# Altium footprint library TerminalBlock_Phoenix.PcbLib: 114 footprints (part 3 of 8)
Each footprint in its own frame and in the unit in brackets; x right, y up, seen from the top. Pads: shape width x height; smd on the part's side, far side on the other; paste and mask are expansions set on the pad; w line width, h text height; cw(c..) or ccw(c..) is an arc to the next point about the centre after c.
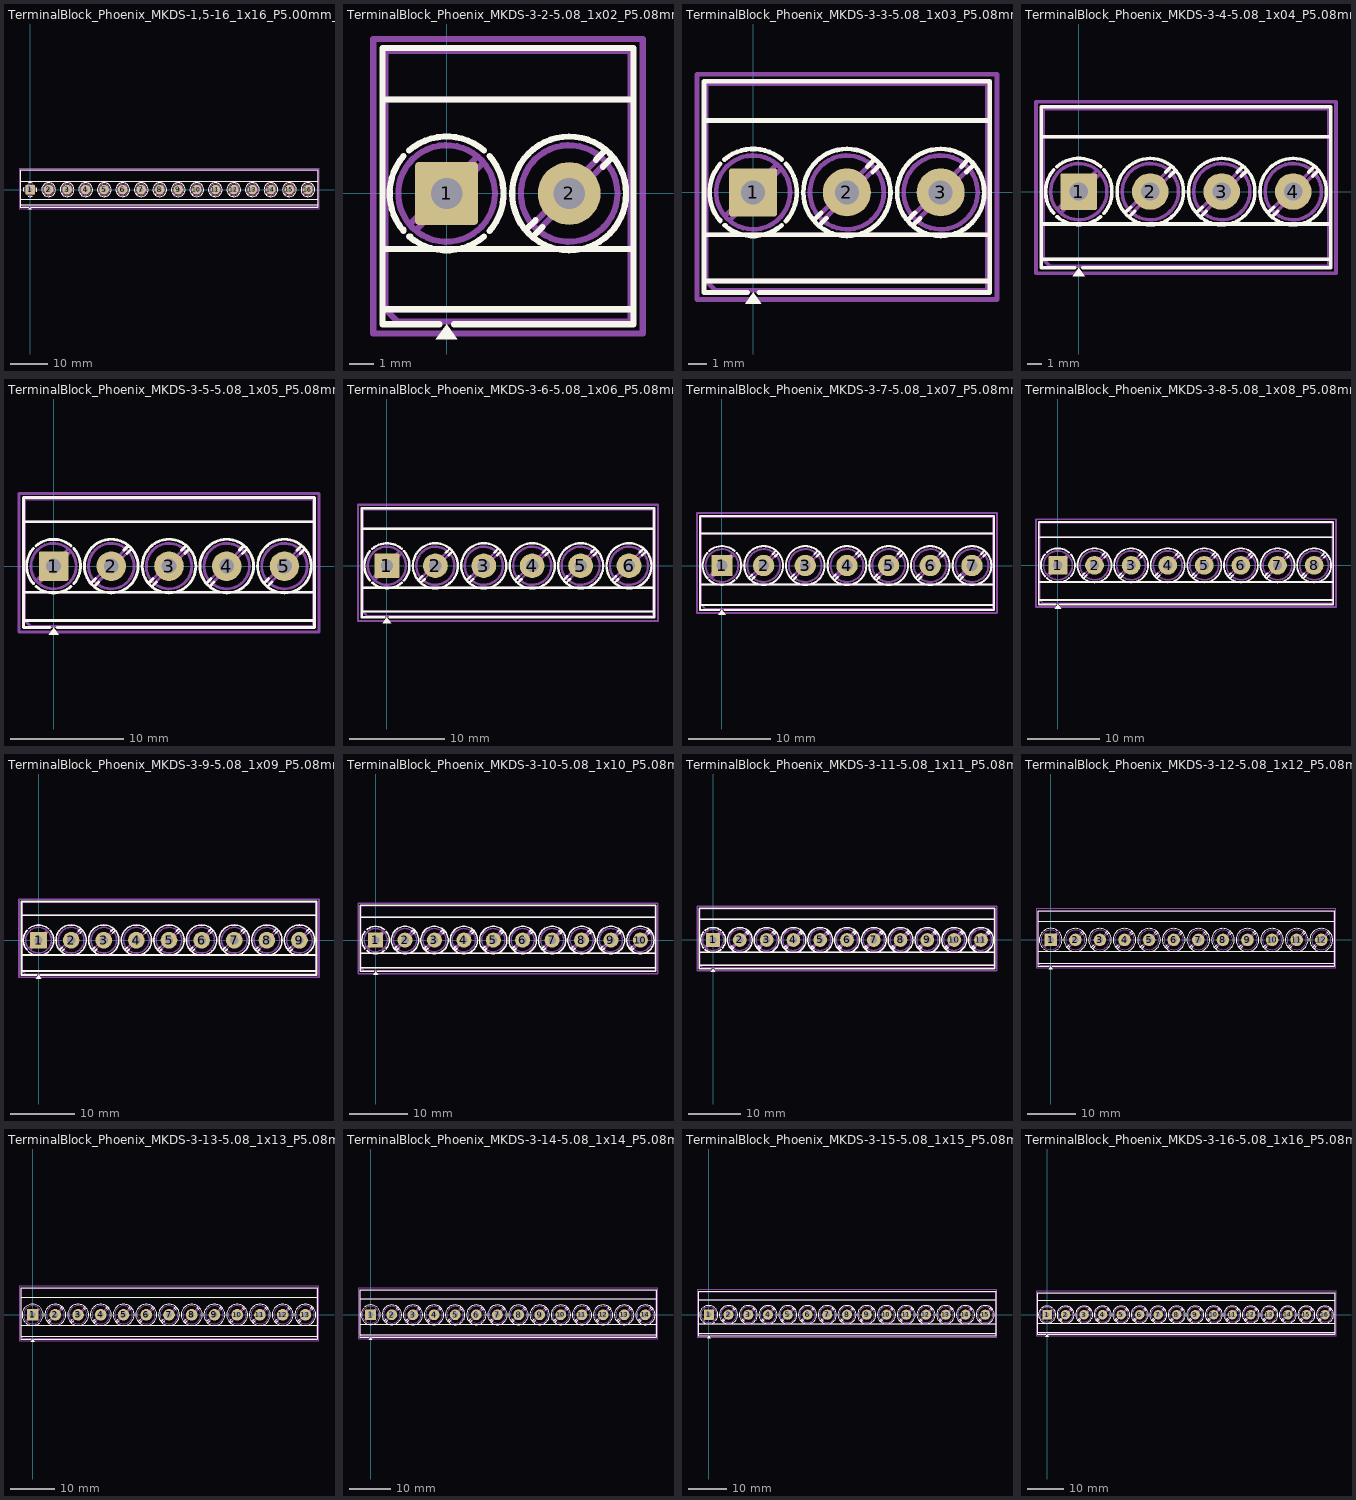
[diagram p2: the footprints below, top view; thin cyan lines are the x and y axes]

## TerminalBlock_Phoenix_MKDS-1,5-16_1x16_P5.00mm_Horizontal [mm]
pads (16):
  rrect10% 2.6x2.6 hole 1.3: 1(0,0)
  round 2.6 hole 1.3: 2(5,0) 3(10,0) 4(15,0) 5(20,0) 6(25,0) 7(30,0) 8(35,0) 9(40,0) 10(45,0) 11(50,0) 12(55,0) 13(60,0) 14(65,0) 15(70,0) 16(75,0)
F.SilkS:
  circle w0.254: c5,0 r1.86
  circle w0.254: c10,0 r1.86
  circle w0.254: c15,0 r1.86
  circle w0.254: c20,0 r1.86
  circle w0.254: c25,0 r1.86
  circle w0.254: c30,0 r1.86
  circle w0.254: c35,0 r1.86
  circle w0.254: c40,0 r1.86
  circle w0.254: c45,0 r1.86
  circle w0.254: c50,0 r1.86
  circle w0.254: c55,0 r1.86
  circle w0.254: c60,0 r1.86
  circle w0.254: c65,0 r1.86
  circle w0.254: c70,0 r1.86
  circle w0.254: c75,0 r1.86
  region: 0.44,-5.33 -0.44,-5.33 0,-4.72
  lines w0.254: -2.62,-4.1 77.62,-4.1 ; -2.62,-2.6 77.62,-2.6 ; -2.62,2.3 77.62,2.3 ; -1.78,-0.54 cw(c0,0) -1.78,0.539 ; -0.539,-1.78 ccw(c0,0) 0.54,-1.78 ; -0.54,1.78 cw(c0,0) 0.539,1.78 ; -0.3,-4.72 -2.62,-4.72 -2.62,5.32 77.62,5.32 77.62,-4.72 0.3,-4.72 ; 1.78,-0.539 ccw(c0,0) 1.78,0.54 ; 3.589,-1.183 3.633,-1.14 ; 3.816,-1.41 3.86,-1.367 ; 6.14,1.367 6.184,1.411 ; 6.367,1.14 6.411,1.184 ; 8.589,-1.183 8.633,-1.14 ; 8.816,-1.41 8.86,-1.367 ; 11.14,1.367 11.184,1.411 ; 11.367,1.14 11.411,1.184 ; 13.589,-1.183 13.633,-1.14 ; 13.816,-1.41 13.86,-1.367 ; 16.14,1.367 16.184,1.411 ; 16.367,1.14 16.411,1.184 ; 18.589,-1.183 18.633,-1.14 ; 18.816,-1.41 18.86,-1.367 ; 21.14,1.367 21.184,1.411 ; 21.367,1.14 21.411,1.184 ; 23.589,-1.183 23.633,-1.14 ; 23.816,-1.41 23.86,-1.367 ; 26.14,1.367 26.184,1.411 ; 26.367,1.14 26.411,1.184 ; 28.589,-1.183 28.633,-1.14 ; 28.816,-1.41 28.86,-1.367 ; 31.14,1.367 31.184,1.411 ; 31.367,1.14 31.411,1.184 ; 33.589,-1.183 33.633,-1.14 ; 33.816,-1.41 33.86,-1.367 ; 36.14,1.367 36.184,1.411 ; 36.367,1.14 36.411,1.184 ; 38.589,-1.183 38.633,-1.14 ; 38.816,-1.41 38.86,-1.367 ; 41.14,1.367 41.184,1.411 ; 41.367,1.14 41.411,1.184 ; 43.589,-1.183 43.633,-1.14 ; 43.816,-1.41 43.86,-1.367 ; 46.14,1.367 46.184,1.411 ; 46.367,1.14 46.411,1.184 ; 48.589,-1.183 48.633,-1.14 ; 48.816,-1.41 48.86,-1.367 ; 51.14,1.367 51.184,1.411 ; 51.367,1.14 51.411,1.184 ; 53.589,-1.183 53.633,-1.14 ; 53.816,-1.41 53.86,-1.367 ; 56.14,1.367 56.184,1.411 ; 56.367,1.14 56.411,1.184 ; 58.589,-1.183 58.633,-1.14 ; 58.816,-1.41 58.86,-1.367 ; 61.14,1.367 61.184,1.411 ; 61.367,1.14 61.411,1.184 ; 63.589,-1.183 63.633,-1.14 ; 63.816,-1.41 63.86,-1.367 ; 66.14,1.367 66.184,1.411 ; 66.367,1.14 66.411,1.184 ; 68.589,-1.183 68.633,-1.14 ; 68.816,-1.41 68.86,-1.367 ; 71.14,1.367 71.184,1.411 ; 71.367,1.14 71.411,1.184 ; 73.589,-1.183 73.633,-1.14 ; 73.816,-1.41 73.86,-1.367 ; 76.14,1.367 76.184,1.411 ; 76.367,1.14 76.411,1.184
F.CrtYd:
  lines w0.254: -3,-5.1 -3,5.71 78,5.71 78,-5.1 -3,-5.1
F.Fab:
  circle w0.254: c0,0 r1.5
  circle w0.254: c5,0 r1.5
  circle w0.254: c10,0 r1.5
  circle w0.254: c15,0 r1.5
  circle w0.254: c20,0 r1.5
  circle w0.254: c25,0 r1.5
  circle w0.254: c30,0 r1.5
  circle w0.254: c35,0 r1.5
  circle w0.254: c40,0 r1.5
  circle w0.254: c45,0 r1.5
  circle w0.254: c50,0 r1.5
  circle w0.254: c55,0 r1.5
  circle w0.254: c60,0 r1.5
  circle w0.254: c65,0 r1.5
  circle w0.254: c70,0 r1.5
  circle w0.254: c75,0 r1.5
  lines w0.254: -2.5,-2.6 77.5,-2.6 ; -2.5,2.3 77.5,2.3 ; -1.138,-0.954 0.955,1.138 ; -0.955,-1.137 1.138,0.954 ; 3.862,-0.954 5.955,1.138 ; 4.045,-1.137 6.138,0.954 ; 8.862,-0.954 10.955,1.138 ; 9.045,-1.137 11.138,0.954 ; 13.862,-0.954 15.955,1.138 ; 14.045,-1.137 16.138,0.954 ; 18.862,-0.954 20.955,1.138 ; 19.045,-1.137 21.138,0.954 ; 23.862,-0.954 25.955,1.138 ; 24.045,-1.137 26.138,0.954 ; 28.862,-0.954 30.955,1.138 ; 29.045,-1.137 31.138,0.954 ; 33.862,-0.954 35.955,1.138 ; 34.045,-1.137 36.138,0.954 ; 38.862,-0.954 40.955,1.138 ; 39.045,-1.137 41.138,0.954 ; 43.862,-0.954 45.955,1.138 ; 44.045,-1.137 46.138,0.954 ; 48.862,-0.954 50.955,1.138 ; 49.045,-1.137 51.138,0.954 ; 53.862,-0.954 55.955,1.138 ; 54.045,-1.137 56.138,0.954 ; 58.862,-0.954 60.955,1.138 ; 59.045,-1.137 61.138,0.954 ; 63.862,-0.954 65.955,1.138 ; 64.045,-1.137 66.138,0.954 ; 68.862,-0.954 70.955,1.138 ; 69.045,-1.137 71.138,0.954 ; 73.862,-0.954 75.955,1.138 ; 74.045,-1.137 76.138,0.954 ; 77.5,-4.1 -2.5,-4.1 ; -2.5,-4.1 -2.5,5.2 77.5,5.2 77.5,-4.6 -2,-4.6 -2.5,-4.1
  text "'.Designator'" at 36.061,-3.598 h1

## TerminalBlock_Phoenix_MKDS-3-2-5.08_1x02_P5.08mm_Horizontal [mm]
pads (2):
  rrect10% 2.6x2.6 hole 1.3: 1(0,0)
  round 2.6 hole 1.3: 2(5.08,0)
F.SilkS:
  circle w0.254: c5.08,0 r2.36
  region: 0.44,-6.03 -0.44,-6.03 0,-5.42
  lines w0.254: -2.66,-4.8 7.74,-4.8 ; -2.66,-2.3 7.74,-2.3 ; -2.66,3.9 7.74,3.9 ; -1.79,-1.502 -1.78,-1.491 ; -1.78,-1.55 cw(c0,0) -1.78,1.55 ; -1.55,-1.78 ccw(c0,0) 1.55,-1.78 ; -1.55,1.78 cw(c0,0) 1.55,1.78 ; -1.502,-1.79 -1.493,-1.78 ; -0.3,-5.42 -2.66,-5.42 -2.66,6.02 7.74,6.02 7.74,-5.42 0.3,-5.42 ; 1.78,-1.55 ccw(c0,0) 1.78,1.55 ; 3.29,-1.502 3.685,-1.106 ; 3.578,-1.79 3.973,-1.394 ; 6.186,1.394 6.582,1.79 ; 6.474,1.106 6.87,1.502
F.CrtYd:
  lines w0.254: -3.04,-5.8 -3.04,6.4 8.13,6.4 8.13,-5.8 -3.04,-5.8
F.Fab:
  circle w0.254: c0,0 r2
  circle w0.254: c5.08,0 r2
  lines w0.254: -2.54,-2.3 7.62,-2.3 ; -2.54,3.9 7.62,3.9 ; -1.517,-1.272 1.273,1.517 ; -1.273,-1.517 1.517,1.273 ; 3.563,-1.272 6.353,1.517 ; 3.807,-1.517 6.597,1.273 ; 7.62,-4.8 -2.54,-4.8 ; -2.54,-4.8 -2.54,5.9 7.62,5.9 7.62,-5.3 -2.04,-5.3 -2.54,-4.8
  text "'.Designator'" at 1.101,-3.498 h1

## TerminalBlock_Phoenix_MKDS-3-3-5.08_1x03_P5.08mm_Horizontal [mm]
pads (3):
  rrect10% 2.6x2.6 hole 1.3: 1(0,0)
  round 2.6 hole 1.3: 2(5.08,0) 3(10.16,0)
F.SilkS:
  circle w0.254: c5.08,0 r2.36
  circle w0.254: c10.16,0 r2.36
  region: 0.44,-6.03 -0.44,-6.03 0,-5.42
  lines w0.254: -2.66,-4.8 12.82,-4.8 ; -2.66,-2.3 12.82,-2.3 ; -2.66,3.9 12.82,3.9 ; -1.79,-1.502 -1.78,-1.491 ; -1.78,-1.55 cw(c0,0) -1.78,1.55 ; -1.55,-1.78 ccw(c0,0) 1.55,-1.78 ; -1.55,1.78 cw(c0,0) 1.55,1.78 ; -1.502,-1.79 -1.493,-1.78 ; -0.3,-5.42 -2.66,-5.42 -2.66,6.02 12.82,6.02 12.82,-5.42 0.3,-5.42 ; 1.78,-1.55 ccw(c0,0) 1.78,1.55 ; 3.29,-1.502 3.685,-1.106 ; 3.578,-1.79 3.973,-1.394 ; 6.186,1.394 6.582,1.79 ; 6.474,1.106 6.87,1.502 ; 8.37,-1.502 8.765,-1.106 ; 8.658,-1.79 9.053,-1.394 ; 11.266,1.394 11.662,1.79 ; 11.554,1.106 11.95,1.502
F.CrtYd:
  lines w0.254: -3.04,-5.8 -3.04,6.4 13.21,6.4 13.21,-5.8 -3.04,-5.8
F.Fab:
  circle w0.254: c0,0 r2
  circle w0.254: c5.08,0 r2
  circle w0.254: c10.16,0 r2
  lines w0.254: -2.54,-2.3 12.7,-2.3 ; -2.54,3.9 12.7,3.9 ; -1.517,-1.272 1.273,1.517 ; -1.273,-1.517 1.517,1.273 ; 3.563,-1.272 6.353,1.517 ; 3.807,-1.517 6.597,1.273 ; 8.643,-1.272 11.433,1.517 ; 8.887,-1.517 11.677,1.273 ; 12.7,-4.8 -2.54,-4.8 ; -2.54,-4.8 -2.54,5.9 12.7,5.9 12.7,-5.3 -2.04,-5.3 -2.54,-4.8
  text "'.Designator'" at 3.641,-3.498 h1

## TerminalBlock_Phoenix_MKDS-3-4-5.08_1x04_P5.08mm_Horizontal [mm]
pads (4):
  rrect10% 2.6x2.6 hole 1.3: 1(0,0)
  round 2.6 hole 1.3: 2(5.08,0) 3(10.16,0) 4(15.24,0)
F.SilkS:
  circle w0.254: c5.08,0 r2.36
  circle w0.254: c10.16,0 r2.36
  circle w0.254: c15.24,0 r2.36
  region: 0.44,-6.03 -0.44,-6.03 0,-5.42
  lines w0.254: -2.66,-4.8 17.9,-4.8 ; -2.66,-2.3 17.9,-2.3 ; -2.66,3.9 17.9,3.9 ; -1.79,-1.502 -1.78,-1.491 ; -1.78,-1.55 cw(c0,0) -1.78,1.55 ; -1.55,-1.78 ccw(c0,0) 1.55,-1.78 ; -1.55,1.78 cw(c0,0) 1.55,1.78 ; -1.502,-1.79 -1.493,-1.78 ; -0.3,-5.42 -2.66,-5.42 -2.66,6.02 17.9,6.02 17.9,-5.42 0.3,-5.42 ; 1.78,-1.55 ccw(c0,0) 1.78,1.55 ; 3.29,-1.502 3.685,-1.106 ; 3.578,-1.79 3.973,-1.394 ; 6.186,1.394 6.582,1.79 ; 6.474,1.106 6.87,1.502 ; 8.37,-1.502 8.765,-1.106 ; 8.658,-1.79 9.053,-1.394 ; 11.266,1.394 11.662,1.79 ; 11.554,1.106 11.95,1.502 ; 13.45,-1.502 13.845,-1.106 ; 13.738,-1.79 14.133,-1.394 ; 16.346,1.394 16.742,1.79 ; 16.634,1.106 17.03,1.502
F.CrtYd:
  lines w0.254: -3.04,-5.8 -3.04,6.4 18.28,6.4 18.28,-5.8 -3.04,-5.8
F.Fab:
  circle w0.254: c0,0 r2
  circle w0.254: c5.08,0 r2
  circle w0.254: c10.16,0 r2
  circle w0.254: c15.24,0 r2
  lines w0.254: -2.54,-2.3 17.78,-2.3 ; -2.54,3.9 17.78,3.9 ; -1.517,-1.272 1.273,1.517 ; -1.273,-1.517 1.517,1.273 ; 3.563,-1.272 6.353,1.517 ; 3.807,-1.517 6.597,1.273 ; 8.643,-1.272 11.433,1.517 ; 8.887,-1.517 11.677,1.273 ; 13.723,-1.272 16.513,1.517 ; 13.967,-1.517 16.757,1.273 ; 17.78,-4.8 -2.54,-4.8 ; -2.54,-4.8 -2.54,5.9 17.78,5.9 17.78,-5.3 -2.04,-5.3 -2.54,-4.8
  text "'.Designator'" at 6.181,-3.498 h1

## TerminalBlock_Phoenix_MKDS-3-5-5.08_1x05_P5.08mm_Horizontal [mm]
pads (5):
  rrect10% 2.6x2.6 hole 1.3: 1(0,0)
  round 2.6 hole 1.3: 2(5.08,0) 3(10.16,0) 4(15.24,0) 5(20.32,0)
F.SilkS:
  circle w0.254: c5.08,0 r2.36
  circle w0.254: c10.16,0 r2.36
  circle w0.254: c15.24,0 r2.36
  circle w0.254: c20.32,0 r2.36
  region: 0.44,-6.03 -0.44,-6.03 0,-5.42
  lines w0.254: -2.66,-4.8 22.98,-4.8 ; -2.66,-2.3 22.98,-2.3 ; -2.66,3.9 22.98,3.9 ; -1.79,-1.502 -1.78,-1.491 ; -1.78,-1.55 cw(c0,0) -1.78,1.55 ; -1.55,-1.78 ccw(c0,0) 1.55,-1.78 ; -1.55,1.78 cw(c0,0) 1.55,1.78 ; -1.502,-1.79 -1.493,-1.78 ; -0.3,-5.42 -2.66,-5.42 -2.66,6.02 22.98,6.02 22.98,-5.42 0.3,-5.42 ; 1.78,-1.55 ccw(c0,0) 1.78,1.55 ; 3.29,-1.502 3.685,-1.106 ; 3.578,-1.79 3.973,-1.394 ; 6.186,1.394 6.582,1.79 ; 6.474,1.106 6.87,1.502 ; 8.37,-1.502 8.765,-1.106 ; 8.658,-1.79 9.053,-1.394 ; 11.266,1.394 11.662,1.79 ; 11.554,1.106 11.95,1.502 ; 13.45,-1.502 13.845,-1.106 ; 13.738,-1.79 14.133,-1.394 ; 16.346,1.394 16.742,1.79 ; 16.634,1.106 17.03,1.502 ; 18.53,-1.502 18.925,-1.106 ; 18.818,-1.79 19.213,-1.394 ; 21.426,1.394 21.822,1.79 ; 21.714,1.106 22.11,1.502
F.CrtYd:
  lines w0.254: -3.04,-5.8 -3.04,6.4 23.36,6.4 23.36,-5.8 -3.04,-5.8
F.Fab:
  circle w0.254: c0,0 r2
  circle w0.254: c5.08,0 r2
  circle w0.254: c10.16,0 r2
  circle w0.254: c15.24,0 r2
  circle w0.254: c20.32,0 r2
  lines w0.254: -2.54,-2.3 22.86,-2.3 ; -2.54,3.9 22.86,3.9 ; -1.517,-1.272 1.273,1.517 ; -1.273,-1.517 1.517,1.273 ; 3.563,-1.272 6.353,1.517 ; 3.807,-1.517 6.597,1.273 ; 8.643,-1.272 11.433,1.517 ; 8.887,-1.517 11.677,1.273 ; 13.723,-1.272 16.513,1.517 ; 13.967,-1.517 16.757,1.273 ; 18.803,-1.272 21.593,1.517 ; 19.047,-1.517 21.837,1.273 ; 22.86,-4.8 -2.54,-4.8 ; -2.54,-4.8 -2.54,5.9 22.86,5.9 22.86,-5.3 -2.04,-5.3 -2.54,-4.8
  text "'.Designator'" at 8.721,-3.498 h1

## TerminalBlock_Phoenix_MKDS-3-6-5.08_1x06_P5.08mm_Horizontal [mm]
pads (6):
  rrect10% 2.6x2.6 hole 1.3: 1(0,0)
  round 2.6 hole 1.3: 2(5.08,0) 3(10.16,0) 4(15.24,0) 5(20.32,0) 6(25.4,0)
F.SilkS:
  circle w0.254: c5.08,0 r2.36
  circle w0.254: c10.16,0 r2.36
  circle w0.254: c15.24,0 r2.36
  circle w0.254: c20.32,0 r2.36
  circle w0.254: c25.4,0 r2.36
  region: 0.44,-6.03 -0.44,-6.03 0,-5.42
  lines w0.254: -2.66,-4.8 28.06,-4.8 ; -2.66,-2.3 28.06,-2.3 ; -2.66,3.9 28.06,3.9 ; -1.79,-1.502 -1.78,-1.491 ; -1.78,-1.55 cw(c0,0) -1.78,1.55 ; -1.55,-1.78 ccw(c0,0) 1.55,-1.78 ; -1.55,1.78 cw(c0,0) 1.55,1.78 ; -1.502,-1.79 -1.493,-1.78 ; -0.3,-5.42 -2.66,-5.42 -2.66,6.02 28.06,6.02 28.06,-5.42 0.3,-5.42 ; 1.78,-1.55 ccw(c0,0) 1.78,1.55 ; 3.29,-1.502 3.685,-1.106 ; 3.578,-1.79 3.973,-1.394 ; 6.186,1.394 6.582,1.79 ; 6.474,1.106 6.87,1.502 ; 8.37,-1.502 8.765,-1.106 ; 8.658,-1.79 9.053,-1.394 ; 11.266,1.394 11.662,1.79 ; 11.554,1.106 11.95,1.502 ; 13.45,-1.502 13.845,-1.106 ; 13.738,-1.79 14.133,-1.394 ; 16.346,1.394 16.742,1.79 ; 16.634,1.106 17.03,1.502 ; 18.53,-1.502 18.925,-1.106 ; 18.818,-1.79 19.213,-1.394 ; 21.426,1.394 21.822,1.79 ; 21.714,1.106 22.11,1.502 ; 23.61,-1.502 24.005,-1.106 ; 23.898,-1.79 24.293,-1.394 ; 26.506,1.394 26.902,1.79 ; 26.794,1.106 27.19,1.502
F.CrtYd:
  lines w0.254: -3.04,-5.8 -3.04,6.4 28.44,6.4 28.44,-5.8 -3.04,-5.8
F.Fab:
  circle w0.254: c0,0 r2
  circle w0.254: c5.08,0 r2
  circle w0.254: c10.16,0 r2
  circle w0.254: c15.24,0 r2
  circle w0.254: c20.32,0 r2
  circle w0.254: c25.4,0 r2
  lines w0.254: -2.54,-2.3 27.94,-2.3 ; -2.54,3.9 27.94,3.9 ; -1.517,-1.272 1.273,1.517 ; -1.273,-1.517 1.517,1.273 ; 3.563,-1.272 6.353,1.517 ; 3.807,-1.517 6.597,1.273 ; 8.643,-1.272 11.433,1.517 ; 8.887,-1.517 11.677,1.273 ; 13.723,-1.272 16.513,1.517 ; 13.967,-1.517 16.757,1.273 ; 18.803,-1.272 21.593,1.517 ; 19.047,-1.517 21.837,1.273 ; 23.883,-1.272 26.673,1.517 ; 24.127,-1.517 26.917,1.273 ; 27.94,-4.8 -2.54,-4.8 ; -2.54,-4.8 -2.54,5.9 27.94,5.9 27.94,-5.3 -2.04,-5.3 -2.54,-4.8
  text "'.Designator'" at 11.261,-3.498 h1

## TerminalBlock_Phoenix_MKDS-3-7-5.08_1x07_P5.08mm_Horizontal [mm]
pads (7):
  rrect10% 2.6x2.6 hole 1.3: 1(0,0)
  round 2.6 hole 1.3: 2(5.08,0) 3(10.16,0) 4(15.24,0) 5(20.32,0) 6(25.4,0) 7(30.48,0)
F.SilkS:
  circle w0.254: c5.08,0 r2.36
  circle w0.254: c10.16,0 r2.36
  circle w0.254: c15.24,0 r2.36
  circle w0.254: c20.32,0 r2.36
  circle w0.254: c25.4,0 r2.36
  circle w0.254: c30.48,0 r2.36
  region: 0.44,-6.03 -0.44,-6.03 0,-5.42
  lines w0.254: -2.66,-4.8 33.14,-4.8 ; -2.66,-2.3 33.14,-2.3 ; -2.66,3.9 33.14,3.9 ; -1.79,-1.502 -1.78,-1.491 ; -1.78,-1.55 cw(c0,0) -1.78,1.55 ; -1.55,-1.78 ccw(c0,0) 1.55,-1.78 ; -1.55,1.78 cw(c0,0) 1.55,1.78 ; -1.502,-1.79 -1.493,-1.78 ; -0.3,-5.42 -2.66,-5.42 -2.66,6.02 33.14,6.02 33.14,-5.42 0.3,-5.42 ; 1.78,-1.55 ccw(c0,0) 1.78,1.55 ; 3.29,-1.502 3.685,-1.106 ; 3.578,-1.79 3.973,-1.394 ; 6.186,1.394 6.582,1.79 ; 6.474,1.106 6.87,1.502 ; 8.37,-1.502 8.765,-1.106 ; 8.658,-1.79 9.053,-1.394 ; 11.266,1.394 11.662,1.79 ; 11.554,1.106 11.95,1.502 ; 13.45,-1.502 13.845,-1.106 ; 13.738,-1.79 14.133,-1.394 ; 16.346,1.394 16.742,1.79 ; 16.634,1.106 17.03,1.502 ; 18.53,-1.502 18.925,-1.106 ; 18.818,-1.79 19.213,-1.394 ; 21.426,1.394 21.822,1.79 ; 21.714,1.106 22.11,1.502 ; 23.61,-1.502 24.005,-1.106 ; 23.898,-1.79 24.293,-1.394 ; 26.506,1.394 26.902,1.79 ; 26.794,1.106 27.19,1.502 ; 28.69,-1.502 29.085,-1.106 ; 28.978,-1.79 29.373,-1.394 ; 31.586,1.394 31.982,1.79 ; 31.874,1.106 32.27,1.502
F.CrtYd:
  lines w0.254: -3.04,-5.8 -3.04,6.4 33.53,6.4 33.53,-5.8 -3.04,-5.8
F.Fab:
  circle w0.254: c0,0 r2
  circle w0.254: c5.08,0 r2
  circle w0.254: c10.16,0 r2
  circle w0.254: c15.24,0 r2
  circle w0.254: c20.32,0 r2
  circle w0.254: c25.4,0 r2
  circle w0.254: c30.48,0 r2
  lines w0.254: -2.54,-2.3 33.02,-2.3 ; -2.54,3.9 33.02,3.9 ; -1.517,-1.272 1.273,1.517 ; -1.273,-1.517 1.517,1.273 ; 3.563,-1.272 6.353,1.517 ; 3.807,-1.517 6.597,1.273 ; 8.643,-1.272 11.433,1.517 ; 8.887,-1.517 11.677,1.273 ; 13.723,-1.272 16.513,1.517 ; 13.967,-1.517 16.757,1.273 ; 18.803,-1.272 21.593,1.517 ; 19.047,-1.517 21.837,1.273 ; 23.883,-1.272 26.673,1.517 ; 24.127,-1.517 26.917,1.273 ; 28.963,-1.272 31.753,1.517 ; 29.207,-1.517 31.997,1.273 ; 33.02,-4.8 -2.54,-4.8 ; -2.54,-4.8 -2.54,5.9 33.02,5.9 33.02,-5.3 -2.04,-5.3 -2.54,-4.8
  text "'.Designator'" at 13.801,-3.498 h1

## TerminalBlock_Phoenix_MKDS-3-8-5.08_1x08_P5.08mm_Horizontal [mm]
pads (8):
  rrect10% 2.6x2.6 hole 1.3: 1(0,0)
  round 2.6 hole 1.3: 2(5.08,0) 3(10.16,0) 4(15.24,0) 5(20.32,0) 6(25.4,0) 7(30.48,0) 8(35.56,0)
F.SilkS:
  circle w0.254: c5.08,0 r2.36
  circle w0.254: c10.16,0 r2.36
  circle w0.254: c15.24,0 r2.36
  circle w0.254: c20.32,0 r2.36
  circle w0.254: c25.4,0 r2.36
  circle w0.254: c30.48,0 r2.36
  circle w0.254: c35.56,0 r2.36
  region: 0.44,-6.03 -0.44,-6.03 0,-5.42
  lines w0.254: -2.66,-4.8 38.22,-4.8 ; -2.66,-2.3 38.22,-2.3 ; -2.66,3.9 38.22,3.9 ; -1.79,-1.502 -1.78,-1.491 ; -1.78,-1.55 cw(c0,0) -1.78,1.55 ; -1.55,-1.78 ccw(c0,0) 1.55,-1.78 ; -1.55,1.78 cw(c0,0) 1.55,1.78 ; -1.502,-1.79 -1.493,-1.78 ; -0.3,-5.42 -2.66,-5.42 -2.66,6.02 38.22,6.02 38.22,-5.42 0.3,-5.42 ; 1.78,-1.55 ccw(c0,0) 1.78,1.55 ; 3.29,-1.502 3.685,-1.106 ; 3.578,-1.79 3.973,-1.394 ; 6.186,1.394 6.582,1.79 ; 6.474,1.106 6.87,1.502 ; 8.37,-1.502 8.765,-1.106 ; 8.658,-1.79 9.053,-1.394 ; 11.266,1.394 11.662,1.79 ; 11.554,1.106 11.95,1.502 ; 13.45,-1.502 13.845,-1.106 ; 13.738,-1.79 14.133,-1.394 ; 16.346,1.394 16.742,1.79 ; 16.634,1.106 17.03,1.502 ; 18.53,-1.502 18.925,-1.106 ; 18.818,-1.79 19.213,-1.394 ; 21.426,1.394 21.822,1.79 ; 21.714,1.106 22.11,1.502 ; 23.61,-1.502 24.005,-1.106 ; 23.898,-1.79 24.293,-1.394 ; 26.506,1.394 26.902,1.79 ; 26.794,1.106 27.19,1.502 ; 28.69,-1.502 29.085,-1.106 ; 28.978,-1.79 29.373,-1.394 ; 31.586,1.394 31.982,1.79 ; 31.874,1.106 32.27,1.502 ; 33.77,-1.502 34.165,-1.106 ; 34.058,-1.79 34.453,-1.394 ; 36.666,1.394 37.062,1.79 ; 36.954,1.106 37.35,1.502
F.CrtYd:
  lines w0.254: -3.04,-5.8 -3.04,6.4 38.6,6.4 38.6,-5.8 -3.04,-5.8
F.Fab:
  circle w0.254: c0,0 r2
  circle w0.254: c5.08,0 r2
  circle w0.254: c10.16,0 r2
  circle w0.254: c15.24,0 r2
  circle w0.254: c20.32,0 r2
  circle w0.254: c25.4,0 r2
  circle w0.254: c30.48,0 r2
  circle w0.254: c35.56,0 r2
  lines w0.254: -2.54,-2.3 38.1,-2.3 ; -2.54,3.9 38.1,3.9 ; -1.517,-1.272 1.273,1.517 ; -1.273,-1.517 1.517,1.273 ; 3.563,-1.272 6.353,1.517 ; 3.807,-1.517 6.597,1.273 ; 8.643,-1.272 11.433,1.517 ; 8.887,-1.517 11.677,1.273 ; 13.723,-1.272 16.513,1.517 ; 13.967,-1.517 16.757,1.273 ; 18.803,-1.272 21.593,1.517 ; 19.047,-1.517 21.837,1.273 ; 23.883,-1.272 26.673,1.517 ; 24.127,-1.517 26.917,1.273 ; 28.963,-1.272 31.753,1.517 ; 29.207,-1.517 31.997,1.273 ; 34.043,-1.272 36.833,1.517 ; 34.287,-1.517 37.077,1.273 ; 38.1,-4.8 -2.54,-4.8 ; -2.54,-4.8 -2.54,5.9 38.1,5.9 38.1,-5.3 -2.04,-5.3 -2.54,-4.8
  text "'.Designator'" at 16.341,-3.498 h1

## TerminalBlock_Phoenix_MKDS-3-9-5.08_1x09_P5.08mm_Horizontal [mm]
pads (9):
  rrect10% 2.6x2.6 hole 1.3: 1(0,0)
  round 2.6 hole 1.3: 2(5.08,0) 3(10.16,0) 4(15.24,0) 5(20.32,0) 6(25.4,0) 7(30.48,0) 8(35.56,0) 9(40.64,0)
F.SilkS:
  circle w0.254: c5.08,0 r2.36
  circle w0.254: c10.16,0 r2.36
  circle w0.254: c15.24,0 r2.36
  circle w0.254: c20.32,0 r2.36
  circle w0.254: c25.4,0 r2.36
  circle w0.254: c30.48,0 r2.36
  circle w0.254: c35.56,0 r2.36
  circle w0.254: c40.64,0 r2.36
  region: 0.44,-6.03 -0.44,-6.03 0,-5.42
  lines w0.254: -2.66,-4.8 43.3,-4.8 ; -2.66,-2.3 43.3,-2.3 ; -2.66,3.9 43.3,3.9 ; -1.79,-1.502 -1.78,-1.491 ; -1.78,-1.55 cw(c0,0) -1.78,1.55 ; -1.55,-1.78 ccw(c0,0) 1.55,-1.78 ; -1.55,1.78 cw(c0,0) 1.55,1.78 ; -1.502,-1.79 -1.493,-1.78 ; -0.3,-5.42 -2.66,-5.42 -2.66,6.02 43.3,6.02 43.3,-5.42 0.3,-5.42 ; 1.78,-1.55 ccw(c0,0) 1.78,1.55 ; 3.29,-1.502 3.685,-1.106 ; 3.578,-1.79 3.973,-1.394 ; 6.186,1.394 6.582,1.79 ; 6.474,1.106 6.87,1.502 ; 8.37,-1.502 8.765,-1.106 ; 8.658,-1.79 9.053,-1.394 ; 11.266,1.394 11.662,1.79 ; 11.554,1.106 11.95,1.502 ; 13.45,-1.502 13.845,-1.106 ; 13.738,-1.79 14.133,-1.394 ; 16.346,1.394 16.742,1.79 ; 16.634,1.106 17.03,1.502 ; 18.53,-1.502 18.925,-1.106 ; 18.818,-1.79 19.213,-1.394 ; 21.426,1.394 21.822,1.79 ; 21.714,1.106 22.11,1.502 ; 23.61,-1.502 24.005,-1.106 ; 23.898,-1.79 24.293,-1.394 ; 26.506,1.394 26.902,1.79 ; 26.794,1.106 27.19,1.502 ; 28.69,-1.502 29.085,-1.106 ; 28.978,-1.79 29.373,-1.394 ; 31.586,1.394 31.982,1.79 ; 31.874,1.106 32.27,1.502 ; 33.77,-1.502 34.165,-1.106 ; 34.058,-1.79 34.453,-1.394 ; 36.666,1.394 37.062,1.79 ; 36.954,1.106 37.35,1.502 ; 38.85,-1.502 39.245,-1.106 ; 39.138,-1.79 39.533,-1.394 ; 41.746,1.394 42.142,1.79 ; 42.034,1.106 42.43,1.502
F.CrtYd:
  lines w0.254: -3.04,-5.8 -3.04,6.4 43.68,6.4 43.68,-5.8 -3.04,-5.8
F.Fab:
  circle w0.254: c0,0 r2
  circle w0.254: c5.08,0 r2
  circle w0.254: c10.16,0 r2
  circle w0.254: c15.24,0 r2
  circle w0.254: c20.32,0 r2
  circle w0.254: c25.4,0 r2
  circle w0.254: c30.48,0 r2
  circle w0.254: c35.56,0 r2
  circle w0.254: c40.64,0 r2
  lines w0.254: -2.54,-2.3 43.18,-2.3 ; -2.54,3.9 43.18,3.9 ; -1.517,-1.272 1.273,1.517 ; -1.273,-1.517 1.517,1.273 ; 3.563,-1.272 6.353,1.517 ; 3.807,-1.517 6.597,1.273 ; 8.643,-1.272 11.433,1.517 ; 8.887,-1.517 11.677,1.273 ; 13.723,-1.272 16.513,1.517 ; 13.967,-1.517 16.757,1.273 ; 18.803,-1.272 21.593,1.517 ; 19.047,-1.517 21.837,1.273 ; 23.883,-1.272 26.673,1.517 ; 24.127,-1.517 26.917,1.273 ; 28.963,-1.272 31.753,1.517 ; 29.207,-1.517 31.997,1.273 ; 34.043,-1.272 36.833,1.517 ; 34.287,-1.517 37.077,1.273 ; 39.123,-1.272 41.913,1.517 ; 39.367,-1.517 42.157,1.273 ; 43.18,-4.8 -2.54,-4.8 ; -2.54,-4.8 -2.54,5.9 43.18,5.9 43.18,-5.3 -2.04,-5.3 -2.54,-4.8
  text "'.Designator'" at 18.881,-3.498 h1

## TerminalBlock_Phoenix_MKDS-3-10-5.08_1x10_P5.08mm_Horizontal [mm]
pads (10):
  rrect10% 2.6x2.6 hole 1.3: 1(0,0)
  round 2.6 hole 1.3: 2(5.08,0) 3(10.16,0) 4(15.24,0) 5(20.32,0) 6(25.4,0) 7(30.48,0) 8(35.56,0) 9(40.64,0) 10(45.72,0)
F.SilkS:
  circle w0.254: c5.08,0 r2.36
  circle w0.254: c10.16,0 r2.36
  circle w0.254: c15.24,0 r2.36
  circle w0.254: c20.32,0 r2.36
  circle w0.254: c25.4,0 r2.36
  circle w0.254: c30.48,0 r2.36
  circle w0.254: c35.56,0 r2.36
  circle w0.254: c40.64,0 r2.36
  circle w0.254: c45.72,0 r2.36
  region: 0.44,-6.03 -0.44,-6.03 0,-5.42
  lines w0.254: -2.66,-4.8 48.38,-4.8 ; -2.66,-2.3 48.38,-2.3 ; -2.66,3.9 48.38,3.9 ; -1.79,-1.502 -1.78,-1.491 ; -1.78,-1.55 cw(c0,0) -1.78,1.55 ; -1.55,-1.78 ccw(c0,0) 1.55,-1.78 ; -1.55,1.78 cw(c0,0) 1.55,1.78 ; -1.502,-1.79 -1.493,-1.78 ; -0.3,-5.42 -2.66,-5.42 -2.66,6.02 48.38,6.02 48.38,-5.42 0.3,-5.42 ; 1.78,-1.55 ccw(c0,0) 1.78,1.55 ; 3.29,-1.502 3.685,-1.106 ; 3.578,-1.79 3.973,-1.394 ; 6.186,1.394 6.582,1.79 ; 6.474,1.106 6.87,1.502 ; 8.37,-1.502 8.765,-1.106 ; 8.658,-1.79 9.053,-1.394 ; 11.266,1.394 11.662,1.79 ; 11.554,1.106 11.95,1.502 ; 13.45,-1.502 13.845,-1.106 ; 13.738,-1.79 14.133,-1.394 ; 16.346,1.394 16.742,1.79 ; 16.634,1.106 17.03,1.502 ; 18.53,-1.502 18.925,-1.106 ; 18.818,-1.79 19.213,-1.394 ; 21.426,1.394 21.822,1.79 ; 21.714,1.106 22.11,1.502 ; 23.61,-1.502 24.005,-1.106 ; 23.898,-1.79 24.293,-1.394 ; 26.506,1.394 26.902,1.79 ; 26.794,1.106 27.19,1.502 ; 28.69,-1.502 29.085,-1.106 ; 28.978,-1.79 29.373,-1.394 ; 31.586,1.394 31.982,1.79 ; 31.874,1.106 32.27,1.502 ; 33.77,-1.502 34.165,-1.106 ; 34.058,-1.79 34.453,-1.394 ; 36.666,1.394 37.062,1.79 ; 36.954,1.106 37.35,1.502 ; 38.85,-1.502 39.245,-1.106 ; 39.138,-1.79 39.533,-1.394 ; 41.746,1.394 42.142,1.79 ; 42.034,1.106 42.43,1.502 ; 43.93,-1.502 44.325,-1.106 ; 44.218,-1.79 44.613,-1.394 ; 46.826,1.394 47.222,1.79 ; 47.114,1.106 47.51,1.502
F.CrtYd:
  lines w0.254: -3.04,-5.8 -3.04,6.4 48.76,6.4 48.76,-5.8 -3.04,-5.8
F.Fab:
  circle w0.254: c0,0 r2
  circle w0.254: c5.08,0 r2
  circle w0.254: c10.16,0 r2
  circle w0.254: c15.24,0 r2
  circle w0.254: c20.32,0 r2
  circle w0.254: c25.4,0 r2
  circle w0.254: c30.48,0 r2
  circle w0.254: c35.56,0 r2
  circle w0.254: c40.64,0 r2
  circle w0.254: c45.72,0 r2
  lines w0.254: -2.54,-2.3 48.26,-2.3 ; -2.54,3.9 48.26,3.9 ; -1.517,-1.272 1.273,1.517 ; -1.273,-1.517 1.517,1.273 ; 3.563,-1.272 6.353,1.517 ; 3.807,-1.517 6.597,1.273 ; 8.643,-1.272 11.433,1.517 ; 8.887,-1.517 11.677,1.273 ; 13.723,-1.272 16.513,1.517 ; 13.967,-1.517 16.757,1.273 ; 18.803,-1.272 21.593,1.517 ; 19.047,-1.517 21.837,1.273 ; 23.883,-1.272 26.673,1.517 ; 24.127,-1.517 26.917,1.273 ; 28.963,-1.272 31.753,1.517 ; 29.207,-1.517 31.997,1.273 ; 34.043,-1.272 36.833,1.517 ; 34.287,-1.517 37.077,1.273 ; 39.123,-1.272 41.913,1.517 ; 39.367,-1.517 42.157,1.273 ; 44.203,-1.272 46.993,1.517 ; 44.447,-1.517 47.237,1.273 ; 48.26,-4.8 -2.54,-4.8 ; -2.54,-4.8 -2.54,5.9 48.26,5.9 48.26,-5.3 -2.04,-5.3 -2.54,-4.8
  text "'.Designator'" at 21.421,-3.498 h1

## TerminalBlock_Phoenix_MKDS-3-11-5.08_1x11_P5.08mm_Horizontal [mm]
pads (11):
  rrect10% 2.6x2.6 hole 1.3: 1(0,0)
  round 2.6 hole 1.3: 2(5.08,0) 3(10.16,0) 4(15.24,0) 5(20.32,0) 6(25.4,0) 7(30.48,0) 8(35.56,0) 9(40.64,0) 10(45.72,0) 11(50.8,0)
F.SilkS:
  circle w0.254: c5.08,0 r2.36
  circle w0.254: c10.16,0 r2.36
  circle w0.254: c15.24,0 r2.36
  circle w0.254: c20.32,0 r2.36
  circle w0.254: c25.4,0 r2.36
  circle w0.254: c30.48,0 r2.36
  circle w0.254: c35.56,0 r2.36
  circle w0.254: c40.64,0 r2.36
  circle w0.254: c45.72,0 r2.36
  circle w0.254: c50.8,0 r2.36
  region: 0.44,-6.03 -0.44,-6.03 0,-5.42
  lines w0.254: -2.66,-4.8 53.46,-4.8 ; -2.66,-2.3 53.46,-2.3 ; -2.66,3.9 53.46,3.9 ; -1.79,-1.502 -1.78,-1.491 ; -1.78,-1.55 cw(c0,0) -1.78,1.55 ; -1.55,-1.78 ccw(c0,0) 1.55,-1.78 ; -1.55,1.78 cw(c0,0) 1.55,1.78 ; -1.502,-1.79 -1.493,-1.78 ; -0.3,-5.42 -2.66,-5.42 -2.66,6.02 53.46,6.02 53.46,-5.42 0.3,-5.42 ; 1.78,-1.55 ccw(c0,0) 1.78,1.55 ; 3.29,-1.502 3.685,-1.106 ; 3.578,-1.79 3.973,-1.394 ; 6.186,1.394 6.582,1.79 ; 6.474,1.106 6.87,1.502 ; 8.37,-1.502 8.765,-1.106 ; 8.658,-1.79 9.053,-1.394 ; 11.266,1.394 11.662,1.79 ; 11.554,1.106 11.95,1.502 ; 13.45,-1.502 13.845,-1.106 ; 13.738,-1.79 14.133,-1.394 ; 16.346,1.394 16.742,1.79 ; 16.634,1.106 17.03,1.502 ; 18.53,-1.502 18.925,-1.106 ; 18.818,-1.79 19.213,-1.394 ; 21.426,1.394 21.822,1.79 ; 21.714,1.106 22.11,1.502 ; 23.61,-1.502 24.005,-1.106 ; 23.898,-1.79 24.293,-1.394 ; 26.506,1.394 26.902,1.79 ; 26.794,1.106 27.19,1.502 ; 28.69,-1.502 29.085,-1.106 ; 28.978,-1.79 29.373,-1.394 ; 31.586,1.394 31.982,1.79 ; 31.874,1.106 32.27,1.502 ; 33.77,-1.502 34.165,-1.106 ; 34.058,-1.79 34.453,-1.394 ; 36.666,1.394 37.062,1.79 ; 36.954,1.106 37.35,1.502 ; 38.85,-1.502 39.245,-1.106 ; 39.138,-1.79 39.533,-1.394 ; 41.746,1.394 42.142,1.79 ; 42.034,1.106 42.43,1.502 ; 43.93,-1.502 44.325,-1.106 ; 44.218,-1.79 44.613,-1.394 ; 46.826,1.394 47.222,1.79 ; 47.114,1.106 47.51,1.502 ; 49.01,-1.502 49.405,-1.106 ; 49.298,-1.79 49.693,-1.394 ; 51.906,1.394 52.302,1.79 ; 52.194,1.106 52.59,1.502
F.CrtYd:
  lines w0.254: -3.04,-5.8 -3.04,6.4 53.84,6.4 53.84,-5.8 -3.04,-5.8
F.Fab:
  circle w0.254: c0,0 r2
  circle w0.254: c5.08,0 r2
  circle w0.254: c10.16,0 r2
  circle w0.254: c15.24,0 r2
  circle w0.254: c20.32,0 r2
  circle w0.254: c25.4,0 r2
  circle w0.254: c30.48,0 r2
  circle w0.254: c35.56,0 r2
  circle w0.254: c40.64,0 r2
  circle w0.254: c45.72,0 r2
  circle w0.254: c50.8,0 r2
  lines w0.254: -2.54,-2.3 53.34,-2.3 ; -2.54,3.9 53.34,3.9 ; -1.517,-1.272 1.273,1.517 ; -1.273,-1.517 1.517,1.273 ; 3.563,-1.272 6.353,1.517 ; 3.807,-1.517 6.597,1.273 ; 8.643,-1.272 11.433,1.517 ; 8.887,-1.517 11.677,1.273 ; 13.723,-1.272 16.513,1.517 ; 13.967,-1.517 16.757,1.273 ; 18.803,-1.272 21.593,1.517 ; 19.047,-1.517 21.837,1.273 ; 23.883,-1.272 26.673,1.517 ; 24.127,-1.517 26.917,1.273 ; 28.963,-1.272 31.753,1.517 ; 29.207,-1.517 31.997,1.273 ; 34.043,-1.272 36.833,1.517 ; 34.287,-1.517 37.077,1.273 ; 39.123,-1.272 41.913,1.517 ; 39.367,-1.517 42.157,1.273 ; 44.203,-1.272 46.993,1.517 ; 44.447,-1.517 47.237,1.273 ; 49.283,-1.272 52.073,1.517 ; 49.527,-1.517 52.317,1.273 ; 53.34,-4.8 -2.54,-4.8 ; -2.54,-4.8 -2.54,5.9 53.34,5.9 53.34,-5.3 -2.04,-5.3 -2.54,-4.8
  text "'.Designator'" at 23.961,-3.498 h1

## TerminalBlock_Phoenix_MKDS-3-12-5.08_1x12_P5.08mm_Horizontal [mm]
pads (12):
  rrect10% 2.6x2.6 hole 1.3: 1(0,0)
  round 2.6 hole 1.3: 2(5.08,0) 3(10.16,0) 4(15.24,0) 5(20.32,0) 6(25.4,0) 7(30.48,0) 8(35.56,0) 9(40.64,0) 10(45.72,0) 11(50.8,0) 12(55.88,0)
F.SilkS:
  circle w0.254: c5.08,0 r2.36
  circle w0.254: c10.16,0 r2.36
  circle w0.254: c15.24,0 r2.36
  circle w0.254: c20.32,0 r2.36
  circle w0.254: c25.4,0 r2.36
  circle w0.254: c30.48,0 r2.36
  circle w0.254: c35.56,0 r2.36
  circle w0.254: c40.64,0 r2.36
  circle w0.254: c45.72,0 r2.36
  circle w0.254: c50.8,0 r2.36
  circle w0.254: c55.88,0 r2.36
  region: 0.44,-6.03 -0.44,-6.03 0,-5.42
  lines w0.254: -2.66,-4.8 58.54,-4.8 ; -2.66,-2.3 58.54,-2.3 ; -2.66,3.9 58.54,3.9 ; -1.79,-1.502 -1.78,-1.491 ; -1.78,-1.55 cw(c0,0) -1.78,1.55 ; -1.55,-1.78 ccw(c0,0) 1.55,-1.78 ; -1.55,1.78 cw(c0,0) 1.55,1.78 ; -1.502,-1.79 -1.493,-1.78 ; -0.3,-5.42 -2.66,-5.42 -2.66,6.02 58.54,6.02 58.54,-5.42 0.3,-5.42 ; 1.78,-1.55 ccw(c0,0) 1.78,1.55 ; 3.29,-1.502 3.685,-1.106 ; 3.578,-1.79 3.973,-1.394 ; 6.186,1.394 6.582,1.79 ; 6.474,1.106 6.87,1.502 ; 8.37,-1.502 8.765,-1.106 ; 8.658,-1.79 9.053,-1.394 ; 11.266,1.394 11.662,1.79 ; 11.554,1.106 11.95,1.502 ; 13.45,-1.502 13.845,-1.106 ; 13.738,-1.79 14.133,-1.394 ; 16.346,1.394 16.742,1.79 ; 16.634,1.106 17.03,1.502 ; 18.53,-1.502 18.925,-1.106 ; 18.818,-1.79 19.213,-1.394 ; 21.426,1.394 21.822,1.79 ; 21.714,1.106 22.11,1.502 ; 23.61,-1.502 24.005,-1.106 ; 23.898,-1.79 24.293,-1.394 ; 26.506,1.394 26.902,1.79 ; 26.794,1.106 27.19,1.502 ; 28.69,-1.502 29.085,-1.106 ; 28.978,-1.79 29.373,-1.394 ; 31.586,1.394 31.982,1.79 ; 31.874,1.106 32.27,1.502 ; 33.77,-1.502 34.165,-1.106 ; 34.058,-1.79 34.453,-1.394 ; 36.666,1.394 37.062,1.79 ; 36.954,1.106 37.35,1.502 ; 38.85,-1.502 39.245,-1.106 ; 39.138,-1.79 39.533,-1.394 ; 41.746,1.394 42.142,1.79 ; 42.034,1.106 42.43,1.502 ; 43.93,-1.502 44.325,-1.106 ; 44.218,-1.79 44.613,-1.394 ; 46.826,1.394 47.222,1.79 ; 47.114,1.106 47.51,1.502 ; 49.01,-1.502 49.405,-1.106 ; 49.298,-1.79 49.693,-1.394 ; 51.906,1.394 52.302,1.79 ; 52.194,1.106 52.59,1.502 ; 54.09,-1.502 54.485,-1.106 ; 54.378,-1.79 54.773,-1.394 ; 56.986,1.394 57.382,1.79 ; 57.274,1.106 57.67,1.502
F.CrtYd:
  lines w0.254: -3.04,-5.8 -3.04,6.4 58.92,6.4 58.92,-5.8 -3.04,-5.8
F.Fab:
  circle w0.254: c0,0 r2
  circle w0.254: c5.08,0 r2
  circle w0.254: c10.16,0 r2
  circle w0.254: c15.24,0 r2
  circle w0.254: c20.32,0 r2
  circle w0.254: c25.4,0 r2
  circle w0.254: c30.48,0 r2
  circle w0.254: c35.56,0 r2
  circle w0.254: c40.64,0 r2
  circle w0.254: c45.72,0 r2
  circle w0.254: c50.8,0 r2
  circle w0.254: c55.88,0 r2
  lines w0.254: -2.54,-2.3 58.42,-2.3 ; -2.54,3.9 58.42,3.9 ; -1.517,-1.272 1.273,1.517 ; -1.273,-1.517 1.517,1.273 ; 3.563,-1.272 6.353,1.517 ; 3.807,-1.517 6.597,1.273 ; 8.643,-1.272 11.433,1.517 ; 8.887,-1.517 11.677,1.273 ; 13.723,-1.272 16.513,1.517 ; 13.967,-1.517 16.757,1.273 ; 18.803,-1.272 21.593,1.517 ; 19.047,-1.517 21.837,1.273 ; 23.883,-1.272 26.673,1.517 ; 24.127,-1.517 26.917,1.273 ; 28.963,-1.272 31.753,1.517 ; 29.207,-1.517 31.997,1.273 ; 34.043,-1.272 36.833,1.517 ; 34.287,-1.517 37.077,1.273 ; 39.123,-1.272 41.913,1.517 ; 39.367,-1.517 42.157,1.273 ; 44.203,-1.272 46.993,1.517 ; 44.447,-1.517 47.237,1.273 ; 49.283,-1.272 52.073,1.517 ; 49.527,-1.517 52.317,1.273 ; 54.363,-1.272 57.153,1.517 ; 54.607,-1.517 57.397,1.273 ; 58.42,-4.8 -2.54,-4.8 ; -2.54,-4.8 -2.54,5.9 58.42,5.9 58.42,-5.3 -2.04,-5.3 -2.54,-4.8
  text "'.Designator'" at 26.501,-3.498 h1

## TerminalBlock_Phoenix_MKDS-3-13-5.08_1x13_P5.08mm_Horizontal [mm]
pads (13):
  rrect10% 2.6x2.6 hole 1.3: 1(0,0)
  round 2.6 hole 1.3: 2(5.08,0) 3(10.16,0) 4(15.24,0) 5(20.32,0) 6(25.4,0) 7(30.48,0) 8(35.56,0) 9(40.64,0) 10(45.72,0) 11(50.8,0) 12(55.88,0) 13(60.96,0)
F.SilkS:
  circle w0.254: c5.08,0 r2.36
  circle w0.254: c10.16,0 r2.36
  circle w0.254: c15.24,0 r2.36
  circle w0.254: c20.32,0 r2.36
  circle w0.254: c25.4,0 r2.36
  circle w0.254: c30.48,0 r2.36
  circle w0.254: c35.56,0 r2.36
  circle w0.254: c40.64,0 r2.36
  circle w0.254: c45.72,0 r2.36
  circle w0.254: c50.8,0 r2.36
  circle w0.254: c55.88,0 r2.36
  circle w0.254: c60.96,0 r2.36
  region: 0.44,-6.03 -0.44,-6.03 0,-5.42
  lines w0.254: -2.66,-4.8 63.62,-4.8 ; -2.66,-2.3 63.62,-2.3 ; -2.66,3.9 63.62,3.9 ; -1.79,-1.502 -1.78,-1.491 ; -1.78,-1.55 cw(c0,0) -1.78,1.55 ; -1.55,-1.78 ccw(c0,0) 1.55,-1.78 ; -1.55,1.78 cw(c0,0) 1.55,1.78 ; -1.502,-1.79 -1.493,-1.78 ; -0.3,-5.42 -2.66,-5.42 -2.66,6.02 63.62,6.02 63.62,-5.42 0.3,-5.42 ; 1.78,-1.55 ccw(c0,0) 1.78,1.55 ; 3.29,-1.502 3.685,-1.106 ; 3.578,-1.79 3.973,-1.394 ; 6.186,1.394 6.582,1.79 ; 6.474,1.106 6.87,1.502 ; 8.37,-1.502 8.765,-1.106 ; 8.658,-1.79 9.053,-1.394 ; 11.266,1.394 11.662,1.79 ; 11.554,1.106 11.95,1.502 ; 13.45,-1.502 13.845,-1.106 ; 13.738,-1.79 14.133,-1.394 ; 16.346,1.394 16.742,1.79 ; 16.634,1.106 17.03,1.502 ; 18.53,-1.502 18.925,-1.106 ; 18.818,-1.79 19.213,-1.394 ; 21.426,1.394 21.822,1.79 ; 21.714,1.106 22.11,1.502 ; 23.61,-1.502 24.005,-1.106 ; 23.898,-1.79 24.293,-1.394 ; 26.506,1.394 26.902,1.79 ; 26.794,1.106 27.19,1.502 ; 28.69,-1.502 29.085,-1.106 ; 28.978,-1.79 29.373,-1.394 ; 31.586,1.394 31.982,1.79 ; 31.874,1.106 32.27,1.502 ; 33.77,-1.502 34.165,-1.106 ; 34.058,-1.79 34.453,-1.394 ; 36.666,1.394 37.062,1.79 ; 36.954,1.106 37.35,1.502 ; 38.85,-1.502 39.245,-1.106 ; 39.138,-1.79 39.533,-1.394 ; 41.746,1.394 42.142,1.79 ; 42.034,1.106 42.43,1.502 ; 43.93,-1.502 44.325,-1.106 ; 44.218,-1.79 44.613,-1.394 ; 46.826,1.394 47.222,1.79 ; 47.114,1.106 47.51,1.502 ; 49.01,-1.502 49.405,-1.106 ; 49.298,-1.79 49.693,-1.394 ; 51.906,1.394 52.302,1.79 ; 52.194,1.106 52.59,1.502 ; 54.09,-1.502 54.485,-1.106 ; 54.378,-1.79 54.773,-1.394 ; 56.986,1.394 57.382,1.79 ; 57.274,1.106 57.67,1.502 ; 59.17,-1.502 59.565,-1.106 ; 59.458,-1.79 59.853,-1.394 ; 62.066,1.394 62.462,1.79 ; 62.354,1.106 62.75,1.502
F.CrtYd:
  lines w0.254: -3.04,-5.8 -3.04,6.4 64,6.4 64,-5.8 -3.04,-5.8
F.Fab:
  circle w0.254: c0,0 r2
  circle w0.254: c5.08,0 r2
  circle w0.254: c10.16,0 r2
  circle w0.254: c15.24,0 r2
  circle w0.254: c20.32,0 r2
  circle w0.254: c25.4,0 r2
  circle w0.254: c30.48,0 r2
  circle w0.254: c35.56,0 r2
  circle w0.254: c40.64,0 r2
  circle w0.254: c45.72,0 r2
  circle w0.254: c50.8,0 r2
  circle w0.254: c55.88,0 r2
  circle w0.254: c60.96,0 r2
  lines w0.254: -2.54,-2.3 63.5,-2.3 ; -2.54,3.9 63.5,3.9 ; -1.517,-1.272 1.273,1.517 ; -1.273,-1.517 1.517,1.273 ; 3.563,-1.272 6.353,1.517 ; 3.807,-1.517 6.597,1.273 ; 8.643,-1.272 11.433,1.517 ; 8.887,-1.517 11.677,1.273 ; 13.723,-1.272 16.513,1.517 ; 13.967,-1.517 16.757,1.273 ; 18.803,-1.272 21.593,1.517 ; 19.047,-1.517 21.837,1.273 ; 23.883,-1.272 26.673,1.517 ; 24.127,-1.517 26.917,1.273 ; 28.963,-1.272 31.753,1.517 ; 29.207,-1.517 31.997,1.273 ; 34.043,-1.272 36.833,1.517 ; 34.287,-1.517 37.077,1.273 ; 39.123,-1.272 41.913,1.517 ; 39.367,-1.517 42.157,1.273 ; 44.203,-1.272 46.993,1.517 ; 44.447,-1.517 47.237,1.273 ; 49.283,-1.272 52.073,1.517 ; 49.527,-1.517 52.317,1.273 ; 54.363,-1.272 57.153,1.517 ; 54.607,-1.517 57.397,1.273 ; 59.443,-1.272 62.233,1.517 ; 59.687,-1.517 62.477,1.273 ; 63.5,-4.8 -2.54,-4.8 ; -2.54,-4.8 -2.54,5.9 63.5,5.9 63.5,-5.3 -2.04,-5.3 -2.54,-4.8
  text "'.Designator'" at 29.041,-3.498 h1

## TerminalBlock_Phoenix_MKDS-3-14-5.08_1x14_P5.08mm_Horizontal [mm]
pads (14):
  rrect10% 2.6x2.6 hole 1.3: 1(0,0)
  round 2.6 hole 1.3: 2(5.08,0) 3(10.16,0) 4(15.24,0) 5(20.32,0) 6(25.4,0) 7(30.48,0) 8(35.56,0) 9(40.64,0) 10(45.72,0) 11(50.8,0) 12(55.88,0) 13(60.96,0) 14(66.04,0)
F.SilkS:
  circle w0.254: c5.08,0 r2.36
  circle w0.254: c10.16,0 r2.36
  circle w0.254: c15.24,0 r2.36
  circle w0.254: c20.32,0 r2.36
  circle w0.254: c25.4,0 r2.36
  circle w0.254: c30.48,0 r2.36
  circle w0.254: c35.56,0 r2.36
  circle w0.254: c40.64,0 r2.36
  circle w0.254: c45.72,0 r2.36
  circle w0.254: c50.8,0 r2.36
  circle w0.254: c55.88,0 r2.36
  circle w0.254: c60.96,0 r2.36
  circle w0.254: c66.04,0 r2.36
  region: 0.44,-6.03 -0.44,-6.03 0,-5.42
  lines w0.254: -2.66,-4.8 68.7,-4.8 ; -2.66,-2.3 68.7,-2.3 ; -2.66,3.9 68.7,3.9 ; -1.79,-1.502 -1.78,-1.491 ; -1.78,-1.55 cw(c0,0) -1.78,1.55 ; -1.55,-1.78 ccw(c0,0) 1.55,-1.78 ; -1.55,1.78 cw(c0,0) 1.55,1.78 ; -1.502,-1.79 -1.493,-1.78 ; -0.3,-5.42 -2.66,-5.42 -2.66,6.02 68.7,6.02 68.7,-5.42 0.3,-5.42 ; 1.78,-1.55 ccw(c0,0) 1.78,1.55 ; 3.29,-1.502 3.685,-1.106 ; 3.578,-1.79 3.973,-1.394 ; 6.186,1.394 6.582,1.79 ; 6.474,1.106 6.87,1.502 ; 8.37,-1.502 8.765,-1.106 ; 8.658,-1.79 9.053,-1.394 ; 11.266,1.394 11.662,1.79 ; 11.554,1.106 11.95,1.502 ; 13.45,-1.502 13.845,-1.106 ; 13.738,-1.79 14.133,-1.394 ; 16.346,1.394 16.742,1.79 ; 16.634,1.106 17.03,1.502 ; 18.53,-1.502 18.925,-1.106 ; 18.818,-1.79 19.213,-1.394 ; 21.426,1.394 21.822,1.79 ; 21.714,1.106 22.11,1.502 ; 23.61,-1.502 24.005,-1.106 ; 23.898,-1.79 24.293,-1.394 ; 26.506,1.394 26.902,1.79 ; 26.794,1.106 27.19,1.502 ; 28.69,-1.502 29.085,-1.106 ; 28.978,-1.79 29.373,-1.394 ; 31.586,1.394 31.982,1.79 ; 31.874,1.106 32.27,1.502 ; 33.77,-1.502 34.165,-1.106 ; 34.058,-1.79 34.453,-1.394 ; 36.666,1.394 37.062,1.79 ; 36.954,1.106 37.35,1.502 ; 38.85,-1.502 39.245,-1.106 ; 39.138,-1.79 39.533,-1.394 ; 41.746,1.394 42.142,1.79 ; 42.034,1.106 42.43,1.502 ; 43.93,-1.502 44.325,-1.106 ; 44.218,-1.79 44.613,-1.394 ; 46.826,1.394 47.222,1.79 ; 47.114,1.106 47.51,1.502 ; 49.01,-1.502 49.405,-1.106 ; 49.298,-1.79 49.693,-1.394 ; 51.906,1.394 52.302,1.79 ; 52.194,1.106 52.59,1.502 ; 54.09,-1.502 54.485,-1.106 ; 54.378,-1.79 54.773,-1.394 ; 56.986,1.394 57.382,1.79 ; 57.274,1.106 57.67,1.502 ; 59.17,-1.502 59.565,-1.106 ; 59.458,-1.79 59.853,-1.394 ; 62.066,1.394 62.462,1.79 ; 62.354,1.106 62.75,1.502 ; 64.25,-1.502 64.645,-1.106 ; 64.538,-1.79 64.933,-1.394 ; 67.146,1.394 67.542,1.79 ; 67.434,1.106 67.83,1.502
F.CrtYd:
  lines w0.254: -3.04,-5.8 -3.04,6.4 69.08,6.4 69.08,-5.8 -3.04,-5.8
F.Fab:
  circle w0.254: c0,0 r2
  circle w0.254: c5.08,0 r2
  circle w0.254: c10.16,0 r2
  circle w0.254: c15.24,0 r2
  circle w0.254: c20.32,0 r2
  circle w0.254: c25.4,0 r2
  circle w0.254: c30.48,0 r2
  circle w0.254: c35.56,0 r2
  circle w0.254: c40.64,0 r2
  circle w0.254: c45.72,0 r2
  circle w0.254: c50.8,0 r2
  circle w0.254: c55.88,0 r2
  circle w0.254: c60.96,0 r2
  circle w0.254: c66.04,0 r2
  lines w0.254: -2.54,-2.3 68.58,-2.3 ; -2.54,3.9 68.58,3.9 ; -1.517,-1.272 1.273,1.517 ; -1.273,-1.517 1.517,1.273 ; 3.563,-1.272 6.353,1.517 ; 3.807,-1.517 6.597,1.273 ; 8.643,-1.272 11.433,1.517 ; 8.887,-1.517 11.677,1.273 ; 13.723,-1.272 16.513,1.517 ; 13.967,-1.517 16.757,1.273 ; 18.803,-1.272 21.593,1.517 ; 19.047,-1.517 21.837,1.273 ; 23.883,-1.272 26.673,1.517 ; 24.127,-1.517 26.917,1.273 ; 28.963,-1.272 31.753,1.517 ; 29.207,-1.517 31.997,1.273 ; 34.043,-1.272 36.833,1.517 ; 34.287,-1.517 37.077,1.273 ; 39.123,-1.272 41.913,1.517 ; 39.367,-1.517 42.157,1.273 ; 44.203,-1.272 46.993,1.517 ; 44.447,-1.517 47.237,1.273 ; 49.283,-1.272 52.073,1.517 ; 49.527,-1.517 52.317,1.273 ; 54.363,-1.272 57.153,1.517 ; 54.607,-1.517 57.397,1.273 ; 59.443,-1.272 62.233,1.517 ; 59.687,-1.517 62.477,1.273 ; 64.523,-1.272 67.313,1.517 ; 64.767,-1.517 67.557,1.273 ; 68.58,-4.8 -2.54,-4.8 ; -2.54,-4.8 -2.54,5.9 68.58,5.9 68.58,-5.3 -2.04,-5.3 -2.54,-4.8
  text "'.Designator'" at 31.581,-3.498 h1

## TerminalBlock_Phoenix_MKDS-3-15-5.08_1x15_P5.08mm_Horizontal [mm]
pads (15):
  rrect10% 2.6x2.6 hole 1.3: 1(0,0)
  round 2.6 hole 1.3: 2(5.08,0) 3(10.16,0) 4(15.24,0) 5(20.32,0) 6(25.4,0) 7(30.48,0) 8(35.56,0) 9(40.64,0) 10(45.72,0) 11(50.8,0) 12(55.88,0) 13(60.96,0) 14(66.04,0) 15(71.12,0)
F.SilkS:
  circle w0.254: c5.08,0 r2.36
  circle w0.254: c10.16,0 r2.36
  circle w0.254: c15.24,0 r2.36
  circle w0.254: c20.32,0 r2.36
  circle w0.254: c25.4,0 r2.36
  circle w0.254: c30.48,0 r2.36
  circle w0.254: c35.56,0 r2.36
  circle w0.254: c40.64,0 r2.36
  circle w0.254: c45.72,0 r2.36
  circle w0.254: c50.8,0 r2.36
  circle w0.254: c55.88,0 r2.36
  circle w0.254: c60.96,0 r2.36
  circle w0.254: c66.04,0 r2.36
  circle w0.254: c71.12,0 r2.36
  region: 0.44,-6.03 -0.44,-6.03 0,-5.42
  lines w0.254: -2.66,-4.8 73.78,-4.8 ; -2.66,-2.3 73.78,-2.3 ; -2.66,3.9 73.78,3.9 ; -1.79,-1.502 -1.78,-1.491 ; -1.78,-1.55 cw(c0,0) -1.78,1.55 ; -1.55,-1.78 ccw(c0,0) 1.55,-1.78 ; -1.55,1.78 cw(c0,0) 1.55,1.78 ; -1.502,-1.79 -1.493,-1.78 ; -0.3,-5.42 -2.66,-5.42 -2.66,6.02 73.78,6.02 73.78,-5.42 0.3,-5.42 ; 1.78,-1.55 ccw(c0,0) 1.78,1.55 ; 3.29,-1.502 3.685,-1.106 ; 3.578,-1.79 3.973,-1.394 ; 6.186,1.394 6.582,1.79 ; 6.474,1.106 6.87,1.502 ; 8.37,-1.502 8.765,-1.106 ; 8.658,-1.79 9.053,-1.394 ; 11.266,1.394 11.662,1.79 ; 11.554,1.106 11.95,1.502 ; 13.45,-1.502 13.845,-1.106 ; 13.738,-1.79 14.133,-1.394 ; 16.346,1.394 16.742,1.79 ; 16.634,1.106 17.03,1.502 ; 18.53,-1.502 18.925,-1.106 ; 18.818,-1.79 19.213,-1.394 ; 21.426,1.394 21.822,1.79 ; 21.714,1.106 22.11,1.502 ; 23.61,-1.502 24.005,-1.106 ; 23.898,-1.79 24.293,-1.394 ; 26.506,1.394 26.902,1.79 ; 26.794,1.106 27.19,1.502 ; 28.69,-1.502 29.085,-1.106 ; 28.978,-1.79 29.373,-1.394 ; 31.586,1.394 31.982,1.79 ; 31.874,1.106 32.27,1.502 ; 33.77,-1.502 34.165,-1.106 ; 34.058,-1.79 34.453,-1.394 ; 36.666,1.394 37.062,1.79 ; 36.954,1.106 37.35,1.502 ; 38.85,-1.502 39.245,-1.106 ; 39.138,-1.79 39.533,-1.394 ; 41.746,1.394 42.142,1.79 ; 42.034,1.106 42.43,1.502 ; 43.93,-1.502 44.325,-1.106 ; 44.218,-1.79 44.613,-1.394 ; 46.826,1.394 47.222,1.79 ; 47.114,1.106 47.51,1.502 ; 49.01,-1.502 49.405,-1.106 ; 49.298,-1.79 49.693,-1.394 ; 51.906,1.394 52.302,1.79 ; 52.194,1.106 52.59,1.502 ; 54.09,-1.502 54.485,-1.106 ; 54.378,-1.79 54.773,-1.394 ; 56.986,1.394 57.382,1.79 ; 57.274,1.106 57.67,1.502 ; 59.17,-1.502 59.565,-1.106 ; 59.458,-1.79 59.853,-1.394 ; 62.066,1.394 62.462,1.79 ; 62.354,1.106 62.75,1.502 ; 64.25,-1.502 64.645,-1.106 ; 64.538,-1.79 64.933,-1.394 ; 67.146,1.394 67.542,1.79 ; 67.434,1.106 67.83,1.502 ; 69.33,-1.502 69.725,-1.106 ; 69.618,-1.79 70.013,-1.394 ; 72.226,1.394 72.622,1.79 ; 72.514,1.106 72.91,1.502
F.CrtYd:
  lines w0.254: -3.04,-5.8 -3.04,6.4 74.16,6.4 74.16,-5.8 -3.04,-5.8
F.Fab:
  circle w0.254: c0,0 r2
  circle w0.254: c5.08,0 r2
  circle w0.254: c10.16,0 r2
  circle w0.254: c15.24,0 r2
  circle w0.254: c20.32,0 r2
  circle w0.254: c25.4,0 r2
  circle w0.254: c30.48,0 r2
  circle w0.254: c35.56,0 r2
  circle w0.254: c40.64,0 r2
  circle w0.254: c45.72,0 r2
  circle w0.254: c50.8,0 r2
  circle w0.254: c55.88,0 r2
  circle w0.254: c60.96,0 r2
  circle w0.254: c66.04,0 r2
  circle w0.254: c71.12,0 r2
  lines w0.254: -2.54,-2.3 73.66,-2.3 ; -2.54,3.9 73.66,3.9 ; -1.517,-1.272 1.273,1.517 ; -1.273,-1.517 1.517,1.273 ; 3.563,-1.272 6.353,1.517 ; 3.807,-1.517 6.597,1.273 ; 8.643,-1.272 11.433,1.517 ; 8.887,-1.517 11.677,1.273 ; 13.723,-1.272 16.513,1.517 ; 13.967,-1.517 16.757,1.273 ; 18.803,-1.272 21.593,1.517 ; 19.047,-1.517 21.837,1.273 ; 23.883,-1.272 26.673,1.517 ; 24.127,-1.517 26.917,1.273 ; 28.963,-1.272 31.753,1.517 ; 29.207,-1.517 31.997,1.273 ; 34.043,-1.272 36.833,1.517 ; 34.287,-1.517 37.077,1.273 ; 39.123,-1.272 41.913,1.517 ; 39.367,-1.517 42.157,1.273 ; 44.203,-1.272 46.993,1.517 ; 44.447,-1.517 47.237,1.273 ; 49.283,-1.272 52.073,1.517 ; 49.527,-1.517 52.317,1.273 ; 54.363,-1.272 57.153,1.517 ; 54.607,-1.517 57.397,1.273 ; 59.443,-1.272 62.233,1.517 ; 59.687,-1.517 62.477,1.273 ; 64.523,-1.272 67.313,1.517 ; 64.767,-1.517 67.557,1.273 ; 69.603,-1.272 72.393,1.517 ; 69.847,-1.517 72.637,1.273 ; 73.66,-4.8 -2.54,-4.8 ; -2.54,-4.8 -2.54,5.9 73.66,5.9 73.66,-5.3 -2.04,-5.3 -2.54,-4.8
  text "'.Designator'" at 34.121,-3.498 h1

## TerminalBlock_Phoenix_MKDS-3-16-5.08_1x16_P5.08mm_Horizontal [mm]
pads (16):
  rrect10% 2.6x2.6 hole 1.3: 1(0,0)
  round 2.6 hole 1.3: 2(5.08,0) 3(10.16,0) 4(15.24,0) 5(20.32,0) 6(25.4,0) 7(30.48,0) 8(35.56,0) 9(40.64,0) 10(45.72,0) 11(50.8,0) 12(55.88,0) 13(60.96,0) 14(66.04,0) 15(71.12,0) 16(76.2,0)
F.SilkS:
  circle w0.254: c5.08,0 r2.36
  circle w0.254: c10.16,0 r2.36
  circle w0.254: c15.24,0 r2.36
  circle w0.254: c20.32,0 r2.36
  circle w0.254: c25.4,0 r2.36
  circle w0.254: c30.48,0 r2.36
  circle w0.254: c35.56,0 r2.36
  circle w0.254: c40.64,0 r2.36
  circle w0.254: c45.72,0 r2.36
  circle w0.254: c50.8,0 r2.36
  circle w0.254: c55.88,0 r2.36
  circle w0.254: c60.96,0 r2.36
  circle w0.254: c66.04,0 r2.36
  circle w0.254: c71.12,0 r2.36
  circle w0.254: c76.2,0 r2.36
  region: 0.44,-6.03 -0.44,-6.03 0,-5.42
  lines w0.254: -2.66,-4.8 78.86,-4.8 ; -2.66,-2.3 78.86,-2.3 ; -2.66,3.9 78.86,3.9 ; -1.79,-1.502 -1.78,-1.491 ; -1.78,-1.55 cw(c0,0) -1.78,1.55 ; -1.55,-1.78 ccw(c0,0) 1.55,-1.78 ; -1.55,1.78 cw(c0,0) 1.55,1.78 ; -1.502,-1.79 -1.493,-1.78 ; -0.3,-5.42 -2.66,-5.42 -2.66,6.02 78.86,6.02 78.86,-5.42 0.3,-5.42 ; 1.78,-1.55 ccw(c0,0) 1.78,1.55 ; 3.29,-1.502 3.685,-1.106 ; 3.578,-1.79 3.973,-1.394 ; 6.186,1.394 6.582,1.79 ; 6.474,1.106 6.87,1.502 ; 8.37,-1.502 8.765,-1.106 ; 8.658,-1.79 9.053,-1.394 ; 11.266,1.394 11.662,1.79 ; 11.554,1.106 11.95,1.502 ; 13.45,-1.502 13.845,-1.106 ; 13.738,-1.79 14.133,-1.394 ; 16.346,1.394 16.742,1.79 ; 16.634,1.106 17.03,1.502 ; 18.53,-1.502 18.925,-1.106 ; 18.818,-1.79 19.213,-1.394 ; 21.426,1.394 21.822,1.79 ; 21.714,1.106 22.11,1.502 ; 23.61,-1.502 24.005,-1.106 ; 23.898,-1.79 24.293,-1.394 ; 26.506,1.394 26.902,1.79 ; 26.794,1.106 27.19,1.502 ; 28.69,-1.502 29.085,-1.106 ; 28.978,-1.79 29.373,-1.394 ; 31.586,1.394 31.982,1.79 ; 31.874,1.106 32.27,1.502 ; 33.77,-1.502 34.165,-1.106 ; 34.058,-1.79 34.453,-1.394 ; 36.666,1.394 37.062,1.79 ; 36.954,1.106 37.35,1.502 ; 38.85,-1.502 39.245,-1.106 ; 39.138,-1.79 39.533,-1.394 ; 41.746,1.394 42.142,1.79 ; 42.034,1.106 42.43,1.502 ; 43.93,-1.502 44.325,-1.106 ; 44.218,-1.79 44.613,-1.394 ; 46.826,1.394 47.222,1.79 ; 47.114,1.106 47.51,1.502 ; 49.01,-1.502 49.405,-1.106 ; 49.298,-1.79 49.693,-1.394 ; 51.906,1.394 52.302,1.79 ; 52.194,1.106 52.59,1.502 ; 54.09,-1.502 54.485,-1.106 ; 54.378,-1.79 54.773,-1.394 ; 56.986,1.394 57.382,1.79 ; 57.274,1.106 57.67,1.502 ; 59.17,-1.502 59.565,-1.106 ; 59.458,-1.79 59.853,-1.394 ; 62.066,1.394 62.462,1.79 ; 62.354,1.106 62.75,1.502 ; 64.25,-1.502 64.645,-1.106 ; 64.538,-1.79 64.933,-1.394 ; 67.146,1.394 67.542,1.79 ; 67.434,1.106 67.83,1.502 ; 69.33,-1.502 69.725,-1.106 ; 69.618,-1.79 70.013,-1.394 ; 72.226,1.394 72.622,1.79 ; 72.514,1.106 72.91,1.502 ; 74.41,-1.502 74.805,-1.106 ; 74.698,-1.79 75.093,-1.394 ; 77.306,1.394 77.702,1.79 ; 77.594,1.106 77.99,1.502
F.CrtYd:
  lines w0.254: -3.04,-5.8 -3.04,6.4 79.24,6.4 79.24,-5.8 -3.04,-5.8
F.Fab:
  circle w0.254: c0,0 r2
  circle w0.254: c5.08,0 r2
  circle w0.254: c10.16,0 r2
  circle w0.254: c15.24,0 r2
  circle w0.254: c20.32,0 r2
  circle w0.254: c25.4,0 r2
  circle w0.254: c30.48,0 r2
  circle w0.254: c35.56,0 r2
  circle w0.254: c40.64,0 r2
  circle w0.254: c45.72,0 r2
  circle w0.254: c50.8,0 r2
  circle w0.254: c55.88,0 r2
  circle w0.254: c60.96,0 r2
  circle w0.254: c66.04,0 r2
  circle w0.254: c71.12,0 r2
  circle w0.254: c76.2,0 r2
  lines w0.254: -2.54,-2.3 78.74,-2.3 ; -2.54,3.9 78.74,3.9 ; -1.517,-1.272 1.273,1.517 ; -1.273,-1.517 1.517,1.273 ; 3.563,-1.272 6.353,1.517 ; 3.807,-1.517 6.597,1.273 ; 8.643,-1.272 11.433,1.517 ; 8.887,-1.517 11.677,1.273 ; 13.723,-1.272 16.513,1.517 ; 13.967,-1.517 16.757,1.273 ; 18.803,-1.272 21.593,1.517 ; 19.047,-1.517 21.837,1.273 ; 23.883,-1.272 26.673,1.517 ; 24.127,-1.517 26.917,1.273 ; 28.963,-1.272 31.753,1.517 ; 29.207,-1.517 31.997,1.273 ; 34.043,-1.272 36.833,1.517 ; 34.287,-1.517 37.077,1.273 ; 39.123,-1.272 41.913,1.517 ; 39.367,-1.517 42.157,1.273 ; 44.203,-1.272 46.993,1.517 ; 44.447,-1.517 47.237,1.273 ; 49.283,-1.272 52.073,1.517 ; 49.527,-1.517 52.317,1.273 ; 54.363,-1.272 57.153,1.517 ; 54.607,-1.517 57.397,1.273 ; 59.443,-1.272 62.233,1.517 ; 59.687,-1.517 62.477,1.273 ; 64.523,-1.272 67.313,1.517 ; 64.767,-1.517 67.557,1.273 ; 69.603,-1.272 72.393,1.517 ; 69.847,-1.517 72.637,1.273 ; 74.683,-1.272 77.473,1.517 ; 74.927,-1.517 77.717,1.273 ; 78.74,-4.8 -2.54,-4.8 ; -2.54,-4.8 -2.54,5.9 78.74,5.9 78.74,-5.3 -2.04,-5.3 -2.54,-4.8
  text "'.Designator'" at 36.661,-3.498 h1